# EAGLE library part STECKER_BOSCH_80-PIN (library k-data Mechanik)
Bosch Stecker 80 pol. für VAG (AEB)
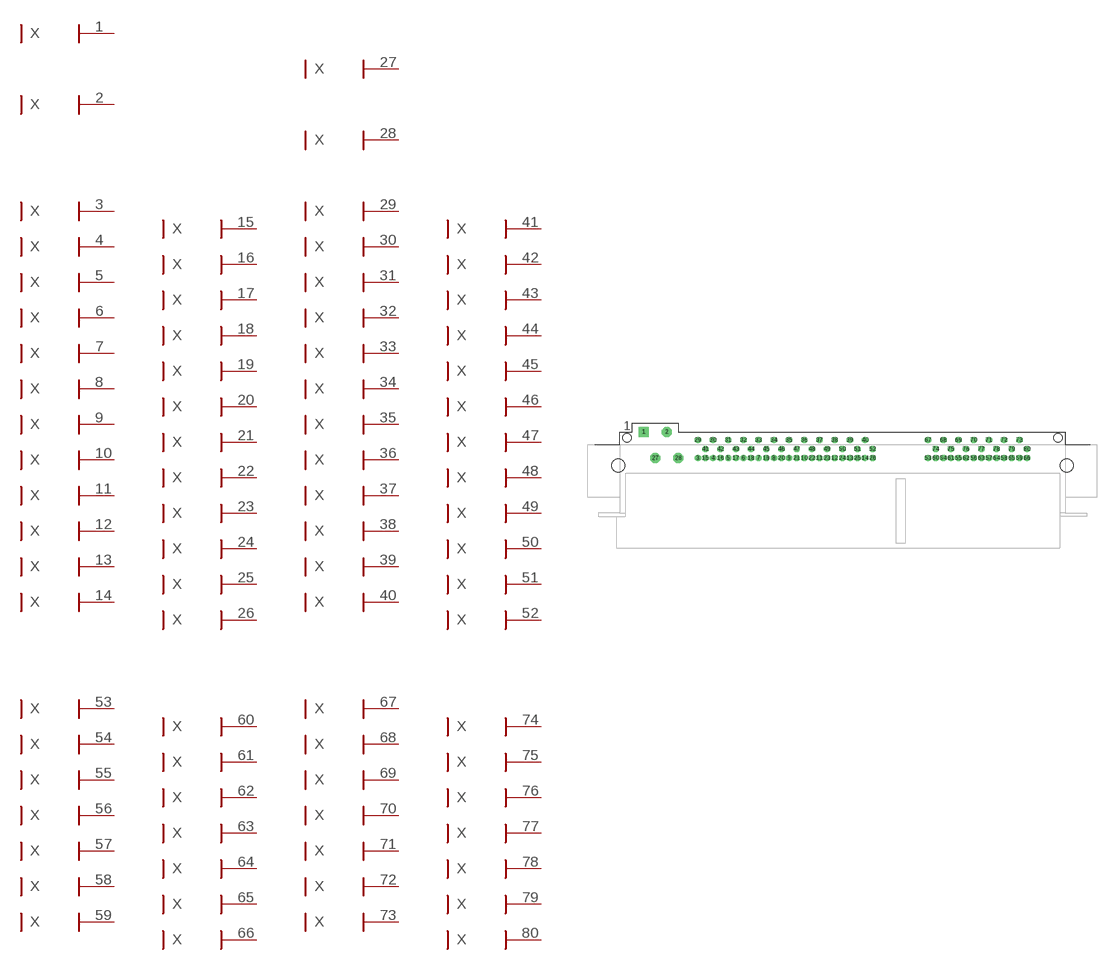
[diagram p12: symbol with the pads of STECKER_BOSCH_80-PIN; footprint STECKER_BOSCH_80-PIN]

Designator prefix X; gates 1=CONNECTOR 2=CONNECTOR 3=CONNECTOR 4=CONNECTOR 5=CONNECTOR 6=CONNECTOR 7=CONNECTOR 8=CONNECTOR 9=CONNECTOR 10=CONNECTOR 11=CONNECTOR 12=CONNECTOR 13=CONNECTOR 14=CONNECTOR 15=CONNECTOR 16=CONNECTOR 17=CONNECTOR 18=CONNECTOR 19=CONNECTOR 20=CONNECTOR 21=CONNECTOR 22=CONNECTOR 23=CONNECTOR 24=CONNECTOR 25=CONNECTOR 26=CONNECTOR 27=CONNECTOR 28=CONNECTOR 29=CONNECTOR 30=CONNECTOR 31=CONNECTOR 32=CONNECTOR 33=CONNECTOR 34=CONNECTOR 35=CONNECTOR 36=CONNECTOR 37=CONNECTOR 38=CONNECTOR 39=CONNECTOR 40=CONNECTOR 41=CONNECTOR 42=CONNECTOR 43=CONNECTOR 44=CONNECTOR 45=CONNECTOR 46=CONNECTOR 47=CONNECTOR 48=CONNECTOR 49=CONNECTOR 50=CONNECTOR 51=CONNECTOR 52=CONNECTOR 53=CONNECTOR 54=CONNECTOR 55=CONNECTOR 56=CONNECTOR 57=CONNECTOR 58=CONNECTOR 59=CONNECTOR 60=CONNECTOR 61=CONNECTOR 62=CONNECTOR 63=CONNECTOR 64=CONNECTOR 65=CONNECTOR 66=CONNECTOR 67=CONNECTOR 68=CONNECTOR 69=CONNECTOR 70=CONNECTOR 71=CONNECTOR 72=CONNECTOR 73=CONNECTOR 74=CONNECTOR 75=CONNECTOR 76=CONNECTOR 77=CONNECTOR 78=CONNECTOR 79=CONNECTOR 80=CONNECTOR

## STECKER_BOSCH_80-PIN  [STECKER_BOSCH_80-PIN]
1  1:1
2  2:1
3  3:1
4  4:1
5  5:1
6  6:1
7  7:1
8  8:1
9  9:1
10  10:1
11  11:1
12  12:1
13  13:1
14  14:1
15  15:1
16  16:1
17  17:1
18  18:1
19  19:1
20  20:1
21  21:1
22  22:1
23  23:1
24  24:1
25  25:1
26  26:1
27  27:1
28  28:1
29  29:1
30  30:1
31  31:1
32  32:1
33  33:1
34  34:1
35  35:1
36  36:1
37  37:1
38  38:1
39  39:1
40  40:1
41  41:1
42  42:1
43  43:1
44  44:1
45  45:1
46  46:1
47  47:1
48  48:1
49  49:1
50  50:1
51  51:1
52  52:1
53  53:1
54  54:1
55  55:1
56  56:1
57  57:1
58  58:1
59  59:1
60  60:1
61  61:1
62  62:1
63  63:1
64  64:1
65  65:1
66  66:1
67  67:1
68  68:1
69  69:1
70  70:1
71  71:1
72  72:1
73  73:1
74  74:1
75  75:1
76  76:1
77  77:1
78  78:1
79  79:1
80  80:1

## Footprint STECKER_BOSCH_80-PIN (pad centres in mm)
Bosch Stecker 80 pol. (AEB)
drill 1.5 pad 2.8 square: 1 -56.15,16
drill 1.5 pad 2.8 octagon: 2 -49.65,16; 27 -52.9,8.6; 28 -46.4,8.6
drill 1.2 pad 1.6 octagon: 3 -40.9,8.6; 4 -36.6,8.6; 5 -32.3,8.6; 6 -28,8.6; 7 -23.7,8.6; 8 -19.4,8.6; 9 -15.1,8.6; 10 -10.8,8.6; 11 -6.5,8.6; 12 -2.2,8.6; 13 2.1,8.6; 14 6.4,8.6; 15 -38.75,8.6; 16 -34.45,8.6; 17 -30.15,8.6; 18 -25.85,8.6; 19 -21.55,8.6; 20 -17.25,8.6; 21 -12.95,8.6; 22 -8.65,8.6; 23 -4.35,8.6; 24 -0.05,8.6; 25 4.25,8.6; 26 8.55,8.6; 29 -40.9,13.7; 30 -36.6,13.7; 31 -32.3,13.7; 32 -28,13.7; 33 -23.7,13.7; 34 -19.4,13.7; 35 -15.1,13.7; 36 -10.8,13.7; 37 -6.5,13.7; 38 -2.2,13.7; 39 2.1,13.7; 40 6.4,13.7; 41 -38.75,11.15; 42 -34.45,11.15; 43 -30.15,11.15; 44 -25.85,11.15; 45 -21.55,11.15; 46 -17.25,11.15; 47 -12.95,11.15; 48 -8.65,11.15; 49 -4.35,11.15; 50 -0.05,11.15; 51 4.25,11.15; 52 8.55,11.15; 53 24.2,8.6; 54 28.5,8.6; 55 32.8,8.6; 56 37.1,8.6; 57 41.4,8.6; 58 45.7,8.6; 59 50,8.6; 60 26.35,8.6; 61 30.65,8.6; 62 34.95,8.6; 63 39.25,8.6; 64 43.55,8.6; 65 47.85,8.6; 66 52.15,8.6; 67 24.2,13.7; 68 28.5,13.7; 69 32.8,13.7; 70 37.1,13.7; 71 41.4,13.7; 72 45.7,13.7; 73 50,13.7; 74 26.35,11.15; 75 30.65,11.15; 76 34.95,11.15; 77 39.25,11.15; 78 43.55,11.15; 79 47.85,11.15; 80 52.15,11.15
hole 3.7 at -63.35,6.5
hole 3.7 at 63.35,6.5
hole 2.4 at 60.9,14.3
hole 2.4 at -60.9,14.3